# EAGLE library part NAU7802KGI (library NAU7802KGI)
IC ADC 24BIT I2C/SRL 16DIP Source: Datasheet <http://www.nuvoton.com/hq/resource-download.jsp?tp_GUID=DA00-NAU7802>
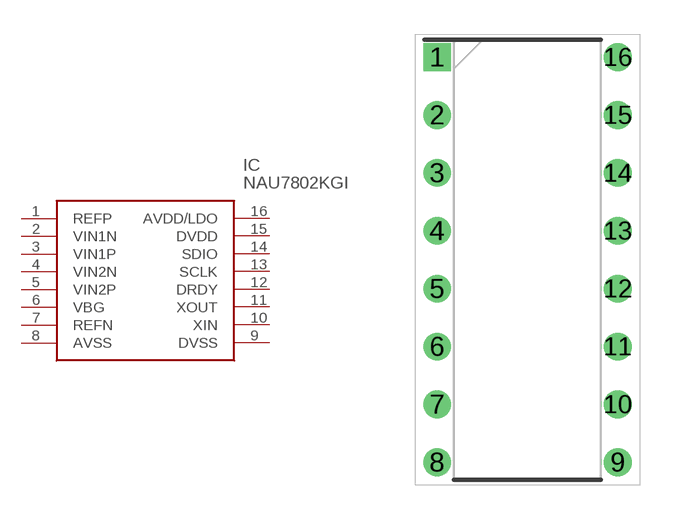
[diagram p0: symbol with the pads of DIP792W51P254L1905H53Q16N; footprint DIP792W51P254L1905H53Q16N]

Designator prefix IC

## NAU7802KGI (Description: IC ADC 24BIT I2C/SRL 16DIP; Height: 0.533mm; Manufacturer_Name: Nuvoton; Manufacturer_Part_Number: NAU7802KGI)  [DIP792W51P254L1905H53Q16N]
1  REFP
2  VIN1N
3  VIN1P
4  VIN2N
5  VIN2P
6  VBG
7  REFN
8  AVSS
9  DVSS
10  XIN
11  XOUT
12  DRDY
13  SCLK
14  SDIO
15  DVDD
16  AVDD/LDO

## Footprint DIP792W51P254L1905H53Q16N (pad centres in mm)
PDIP16L - 300 mil
drill 0.708 pad 1.108 square: 1 -3.962,8.89
drill 0.708 pad 1.108: 2 -3.962,6.35; 3 -3.962,3.81; 4 -3.962,1.27; 5 -3.962,-1.27; 6 -3.962,-3.81; 7 -3.962,-6.35; 8 -3.962,-8.89; 9 3.962,-8.89; 10 3.962,-6.35; 11 3.962,-3.81; 12 3.962,-1.27; 13 3.962,1.27; 14 3.962,3.81; 15 3.962,6.35; 16 3.962,8.89